# Altium footprint library B0505-2W.PcbLib: 1 footprints
Each footprint in its own frame and in the unit in brackets; x right, y up, seen from the top. Pads: shape width x height; smd on the part's side, far side on the other; paste and mask are expansions set on the pad; w line width, h text height; cw(c..) or ccw(c..) is an arc to the next point about the centre after c.
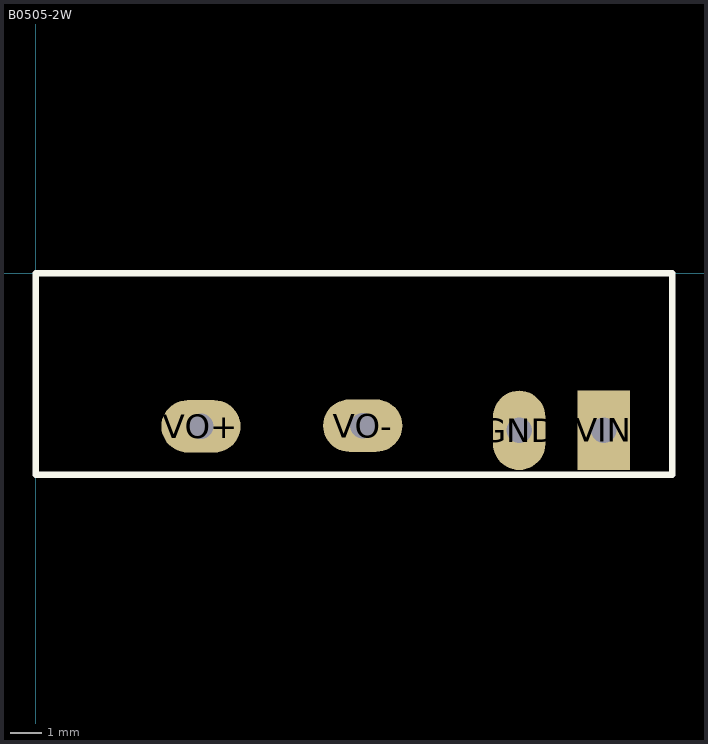
[diagram p0: the footprint, top view; thin cyan lines are the x and y axes]

## B0505-2W [mil]
pads (4):
  oval 65x98.43 hole 31.5: GND(600,-195)
  rect 65x98.43 hole 31.5: VIN(705,-195)
  oval 98.43x65 hole 31.5: VO+(205,-190) VO-(405.85,-189.08)
Top Overlay:
  lines w7.87: 0,-250 0,0 790,0 790,-250 0,-250
3D body "RFB.step": height 401.57, standoff -141.73, extent 9.17,-243.11 780.83,-6.89